# Altium footprint library MMCX.PcbLib: 1 footprints
Each footprint in its own frame and in the unit in brackets; x right, y up, seen from the top. Pads: shape width x height; smd on the part's side, far side on the other; paste and mask are expansions set on the pad; w line width, h text height; cw(c..) or ccw(c..) is an arc to the next point about the centre after c.

## MMCX [mm]
3D body "734140740.stp": height 4.29, standoff -1.02, extent 4.219,0.155 7.719,6.646